# Altium schematic symbol library 61400413321.SchLib: 1 symbol
Pins are listed as number, name and electrical type; pins without a type are passive.

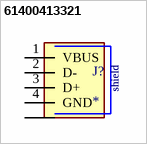
[diagram p0: symbol 61400413321]

## 61400413321
designator J?
<B>WR-COM USB 2.0 Type B Vertical  </B><BR><BR> <b>Kind Properties</b> <BR>Durability:1500 Mating cycles <BR>Connector Type:USB  <BR>Gender:Receptacle <BR>Type:Vertical <BR><BR> <b>General Information</b> <BR>Operating Temperature:-40up to +105 Â°C <BR><BR> <b>Electrical Properties</b> <BR>Working Voltage:30V (AC) <BR>Withstanding Voltage:750V (AC) <BR>Contact Resistance:20 mÎ©<BR><BR> <b>Material Properties </b><BR>Insulator Material:PBT <BR>Insulator Flammability Rating:UL94 V-0 <BR>Color:White <BR>Cover Material:Brass <BR>Cover Plating:Nickel <BR>Contact Material:Copper Alloy <BR>Contact Plating:Selective Gold <BR>Contact Type:Stamped <BR>Shielding Material:Brass <BR>Shielding Plating:Nickel <BR> <br><a href="https://www.we-online.com/catalog/media/o32829v209%20Family_S290_WR-COM_USB_TypeB_61400413321_4C.jpg" title="Enlarge picture"> <img src="https://www.we-online.com/catalog/media/o32829v209%20Family_S290_WR-COM_USB_TypeB_61400413321_4C.jpg" width="320"></a><p> Details see: <a href="https://www.we-online.com/catalog/en/COM_TYPE_B_VERTICAL/">https://www.we-online.com/catalog/en/COM_TYPE_B_VERTICAL/</a><p>  Updated by Yingchun, Shan 2020-01-16<br> 2020 (C) WÃ¼rth Elektronik; MF: {'manufacturer': u'W\xfcrth Elektronik'}; Value: *; Availability: Unavailable; Price: None; Package: None; MP: 61400413321
footprint 61400413321
pins: 1 VBUS, 2 D-, 3 D+, 4 GND, S1 SHIELD, S2 SHIELD
text: shield